# EAGLE library part SW_DIP-3 (library special)
DIP SWITCH
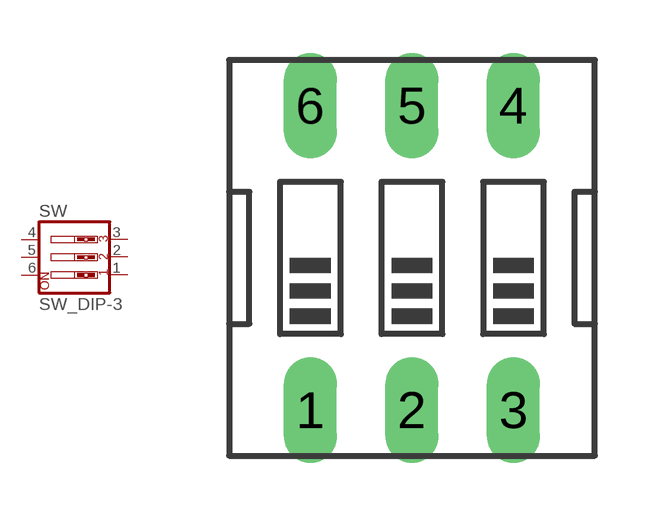
[diagram p1: symbol with the pads of EDG-03; footprint EDG-03]

Designator prefix SW

## SW_DIP-3  [EDG-03]
1  1  pas
2  2  pas
3  3  pas
4  4  pas
5  5  pas
6  6  pas

## Footprint EDG-03 (pad centres in mm)
DIP SWITCH
drill 0.813 long: 1 -2.54,-3.81; 2 0,-3.81; 3 2.54,-3.81; 4 2.54,3.81; 5 0,3.81; 6 -2.54,3.81